# Altium footprint library Supernova Switches.PcbLib: 29 footprints (part 2 of 2)
Each footprint in its own frame and in the unit in brackets; x right, y up, seen from the top. Pads: shape width x height; smd on the part's side, far side on the other; paste and mask are expansions set on the pad; w line width, h text height; cw(c..) or ccw(c..) is an arc to the next point about the centre after c.
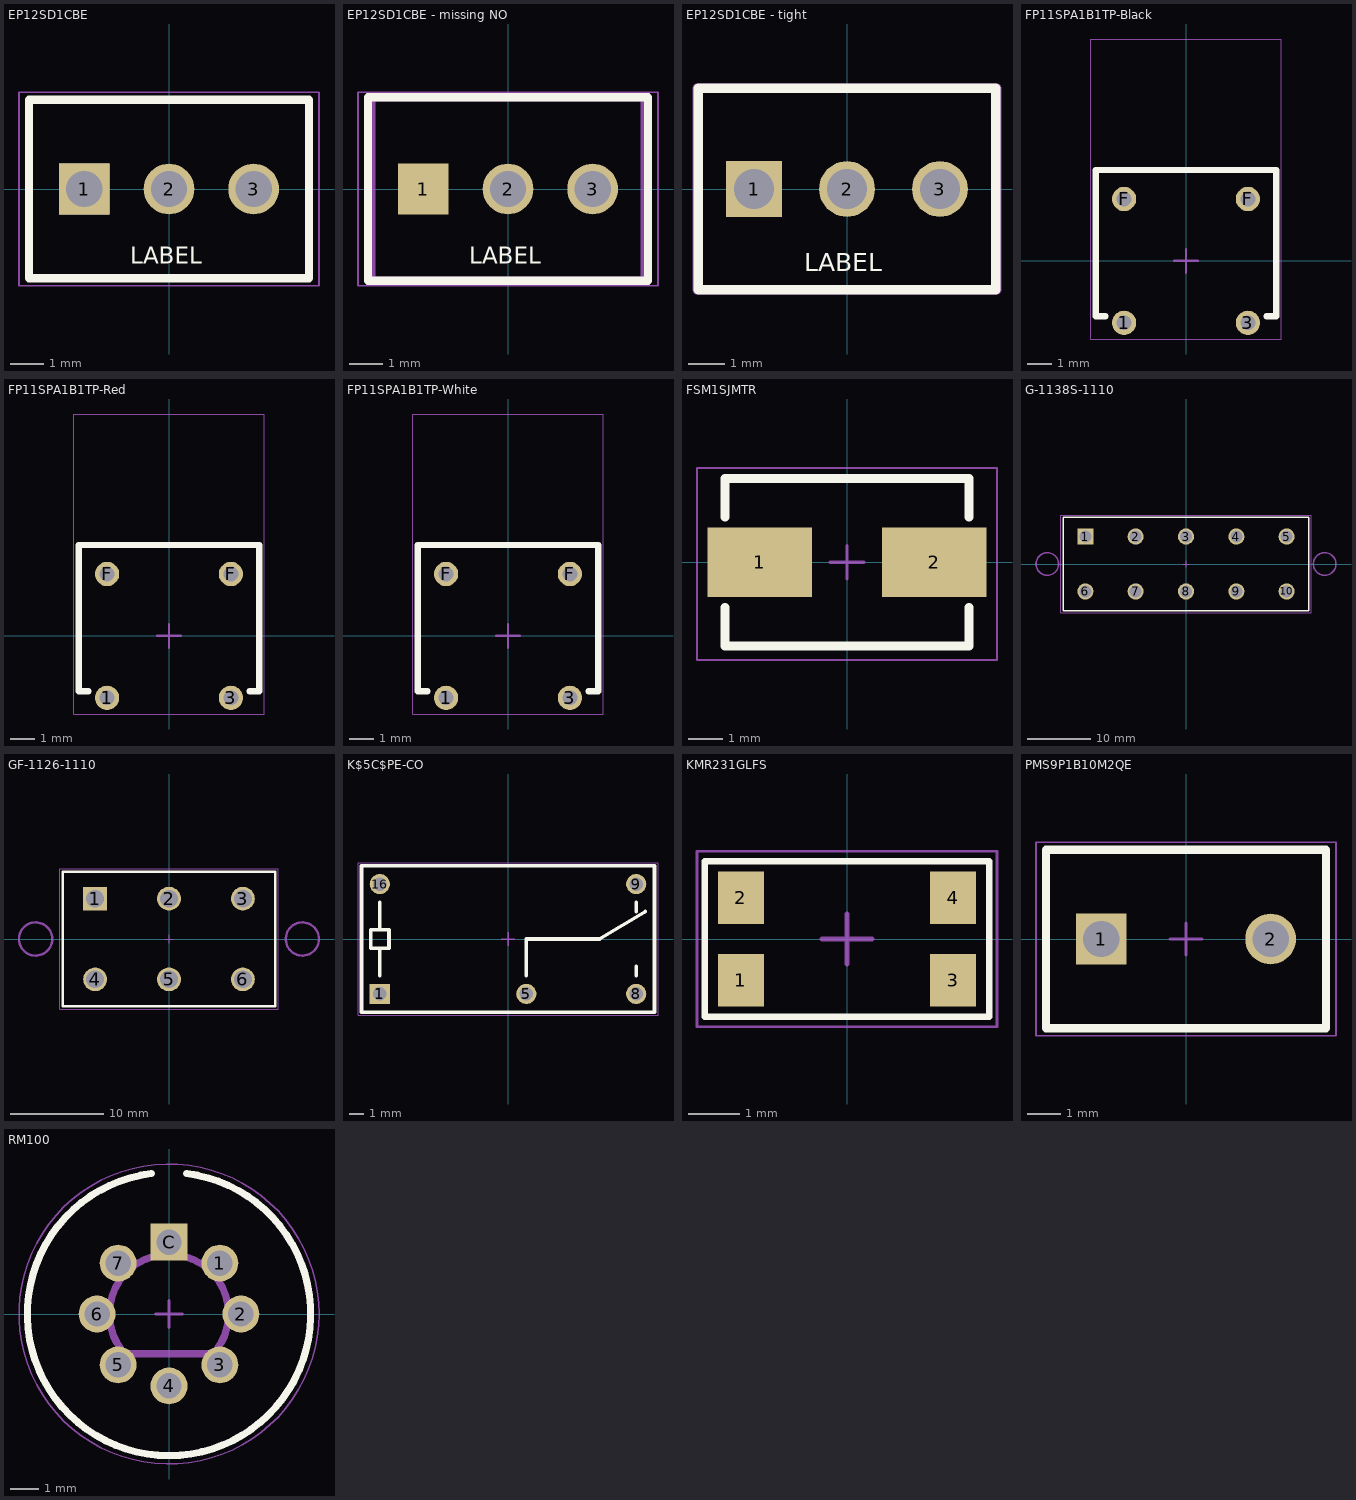
[diagram p1: the footprints below, top view; thin cyan lines are the x and y axes]

## EP12SD1CBE [mil]
pads (3):
  rect 60x60 hole 42.91: 1(-100,0)
  round 60 hole 42.91: 2(0,0) 3(100,0)
Top Overlay:
  rectangle: -130,-30 -70,30
  lines w10: -165.35,-105.31 165.35,-105.31 165.35,105.31 -165.35,105.31 -165.35,-105.31
  text "LABEL" at -45.92,-88.58 h19.68
Top Courtyard:
  lines w1.97: -177.17,-114.17 -177.17,114.17 177.17,114.17 177.17,-114.17 -177.17,-114.17
  lines w3.94: -18.9,0 18.9,0 ; 0,-18.9 0,18.9
3D body "EP12SD1CBE.stp": height 743.19, standoff -128.82, extent -160,-100 160,100

## EP12SD1CBE - missing NO [mil]
pads (3):
  rect 60x60 smd paste-78.74 mask+4: 1(-100,0)
  round 60 hole 42.91: 2(0,0) 3(100,0)
Top Overlay:
  lines w10: -165.35,-108.27 165.35,-108.27 165.35,108.27 -165.35,108.27 -165.35,-108.27
  text "LABEL" at -45.92,-88.58 h19.68
Top 3D Body:
  lines w10: -161.42,-108.27 -161.42,108.27 -157.48,108.27 161.42,108.27 161.42,-108.27 -161.42,-108.27
Top Courtyard:
  lines w1.97: -177.17,-114.17 -177.17,114.17 177.17,114.17 177.17,-114.17 -177.17,-114.17
  lines w3.94: -18.9,0 18.9,0 ; 0,-18.9 0,18.9
3D body "EP12SD1CBE.stp": height 743.19, standoff -128.82, extent -160,-100 160,100

## EP12SD1CBE - tight [mil]
pads (3):
  rect 60x60 hole 42.91: 1(-100,0)
  round 60 hole 42.91: 2(0,0) 3(100,0)
Top Overlay:
  lines w10: -160.16,-108.27 160.09,-108.27 160.09,108.27 -160.16,108.27 -160.16,-108.27
  text "LABEL" at -45.92,-88.58 h19.68
Top 3D Body:
  lines w10: -161.42,-108.27 161.42,-108.27 161.42,108.27 -157.48,108.27 -161.42,108.27 -161.42,-108.27
Top Courtyard:
  lines w1.97: -161.42,-108.27 -161.42,108.27 161.42,108.27 161.42,-108.27 -161.42,-108.27
  lines w3.94: -18.9,0 18.9,0 ; 0,-18.9 0,18.9
3D body "EP12SD1CBE.stp": height 743.19, standoff -128.82, extent -160,-100 160,100

## FP11SPA1B1TP-Black [mm]
pads (4):
  round 1 hole 0.6: 1(-2.54,-2.54) 3(2.54,-2.54) F(-2.54,2.54) F(2.54,2.54)
Top Overlay:
  lines w0.254: -3.3,-2.27 -3.7,-2.27 -3.7,3.73 3.7,3.73 3.7,-2.27 3.3,-2.27
Top Courtyard:
  lines w0.05: -3.9,-3.2 -3.9,9.1 3.9,9.1 3.9,-3.2 -3.9,-3.2
  lines w0.1: -0.48,0 0.48,0 ; 0,-0.48 0,0.48
3D body "FP11SPA1B1TP00.stp": height 5, standoff -2.62, extent -3.5,-2.67 3.5,8.46
3D body: height 4.25, standoff 0.25, extent -2,6.6 2,9

## FP11SPA1B1TP-Red [mm]
pads (4):
  round 1 hole 0.6: 1(-2.54,-2.54) 3(2.54,-2.54) F(-2.54,2.54) F(2.54,2.54)
Top Overlay:
  lines w0.254: -3.3,-2.27 -3.7,-2.27 -3.7,3.73 3.7,3.73 3.7,-2.27 3.3,-2.27
Top Courtyard:
  lines w0.05: -3.9,-3.2 3.9,-3.2 3.9,9.1 -3.9,9.1 -3.9,-3.2
  lines w0.1: -0.48,0 0.48,0 ; 0,-0.48 0,0.48
3D body: height 4.25, standoff 0.25, extent -2,6.6 2,9
3D body "FP11SPA1B1TP00.stp": height 5, standoff -2.62, extent -3.5,-2.67 3.5,8.46

## FP11SPA1B1TP-White [mm]
pads (4):
  round 1 hole 0.6: 1(-2.54,-2.54) 3(2.54,-2.54) F(-2.54,2.54) F(2.54,2.54)
Top Overlay:
  lines w0.254: -3.3,-2.27 -3.7,-2.27 -3.7,3.73 3.7,3.73 3.7,-2.27 3.3,-2.27
Top Courtyard:
  lines w0.05: -3.9,-3.2 -3.9,9.1 3.9,9.1 3.9,-3.2 -3.9,-3.2
  lines w0.1: -0.48,0 0.48,0 ; 0,-0.48 0,0.48
3D body "FP11SPA1B1TP00.stp": height 5, standoff -2.62, extent -3.5,-2.67 3.5,8.46
3D body: height 4.25, standoff 0.25, extent -2,6.6 2,9

## FSM1SJMTR [mm]
pads (2):
  rect 3x2 smd: 1(-2.5,0) 2(2.5,0)
Top Overlay:
  lines w0.254: -3.5,-1.3 -3.5,-2.4 3.5,-2.4 3.5,-1.3 ; -3.5,1.3 -3.5,2.4 3.5,2.4 3.5,1.3
Top Courtyard:
  lines w0.05: -4.3,-2.8 4.3,-2.8 4.3,2.7 -4.3,2.7 -4.3,-2.8
  lines w0.1: -0.48,0 0.48,0 ; 0,-0.48 0,0.48
3D body: height 2.8, standoff 0, extent -3.4,-2.35 3.4,2.35
3D body: height 3.6, standoff 0, extent -2.1,-1.5 2.1,1.5
3D body: height 4.3, standoff 0, extent -1.5,-0.9 1.5,0.9

## G-1138S-1110 [mm] "DP4P switch"
pads (10):
  rect 2.54x2.54 hole 1.91: 1(-15.84,4.32)
  round 2.54 hole 1.91: 2(-7.92,4.32) 3(0,4.32) 4(7.92,4.32) 5(15.84,4.32) 6(-15.84,-4.32) 7(-7.92,-4.32) 8(0,-4.32) 9(7.92,-4.32) 10(15.84,-4.32)
Top Overlay:
  lines w0.254: -19.304,-7.366 -19.304,7.366 19.304,7.366 19.304,-7.366 -19.304,-7.366
Mechanical 5:
  circle w0.254: c-21.82,0 r1.78
  circle w0.254: c21.82,0 r1.78
Top Courtyard:
  lines w0.05: -19.7,-7.7 -19.7,7.7 19.7,7.7 19.7,-7.7 -19.7,-7.7
  lines w0.1: -0.48,0 0.48,0 ; 0,-0.48 0,0.48
3D body "G-1138S-1110_3D MODEL.stp": height 18.9, standoff -5.32, extent -24.994,-7.112 24.994,7.112

## GF-1126-1110 [mm] "DP4P switch"
pads (6):
  rect 2.54x2.54 hole 1.91: 1(-7.92,4.32)
  round 2.54 hole 1.91: 2(0,4.32) 3(7.92,4.32) 4(-7.92,-4.32) 5(0,-4.32) 6(7.92,-4.32)
Top Overlay:
  lines w0.254: -11.4,-7.2 -11.4,7.2 11.4,7.2 11.4,-7.2 -11.4,-7.2
Mechanical 5:
  circle w0.254: c-14.29,0 r1.78
  circle w0.254: c14.29,0 r1.78
Top Courtyard:
  lines w0.05: -11.7,-7.5 11.7,-7.5 11.7,7.5 -11.7,7.5 -11.7,-7.5
  lines w0.1: -0.48,0 0.48,0 ; 0,-0.48 0,0.48
3D body "GF-1126-1110_3D MODEL.stp": height 19.08, standoff -5.3, extent -17.272,-6.943 17.272,6.955

## K$5C$PE-CO [mil]
pads (5):
  rect 55x55 hole 37: 1(-350,-150)
  round 55 hole 37: 5(50,-150) 8(350,-150) 9(350,150) 16(-350,150)
Top Overlay:
  lines w10: -350,-100 -350,-25 ; -350,25 -350,100 ; 50,-100 50,0 250,0 375,75 ; 350,-100 350,-75 ; 350,75 350,100 ; -350,-25 -375,-25 -375,25 -325,25 -325,-25 -350,-25 ; -400,-200 400,-200 400,200 -400,200 -400,-200
Top Courtyard:
  lines w1.97: -409.45,-208.66 -409.45,208.66 409.45,208.66 409.45,-208.66 -409.45,-208.66
  lines w3.94: -18.9,0 18.9,0 ; 0,-18.9 0,18.9
3D body "c-1393219-3-shk1-3d.stp": height 393.7, standoff -149.61, extent -392.69,-198.85 394.7,194.85

## KMR231GLFS [mil] "SW4SMD_63X161LS"
pads (4):
  rect 35x40 smd mask+2: 1(-80.71,-31.5) 2(-80.71,31.5) 3(80.71,-31.5) 4(80.71,31.5)
Top Overlay:
  lines w5: -108.27,-59.06 108.27,-59.06 108.27,59.06 -108.27,59.06 -108.27,-59.06
Top Courtyard:
  lines w1.97: -114.17,-66.93 114.17,-66.93 114.17,66.93 -114.17,66.93 -114.17,-66.93
  lines w3.94: -18.9,0 18.9,0 ; 0,-18.9 0,18.9
3D body "User Library-Switch-CK-KMR2.STEP": height 82.68, standoff 0, extent -90.54,-59.05 90.56,59.06

## PMS9P1B10M2QE [mil]
pads (2):
  rect 60x60 hole 42.91: 1(-100,0)
  round 60 hole 42.91: 2(100,0)
Top Overlay:
  lines w10: -165.35,-105.31 -165.35,105.31 165.35,105.31 165.35,-105.31 -165.35,-105.31
Top Courtyard:
  lines w1.97: -177.17,-114.17 177.17,-114.17 177.17,114.17 -177.17,114.17 -177.17,-114.17
  lines w3.94: -18.9,0 18.9,0 ; 0,-18.9 0,18.9
3D body "c-2267072-4-a-3d.stp": height 488.19, standoff -127.56, extent -160,-100.78 160,100.79

## RM100 [mm]
pads (8):
  round 1.3 hole 0.9: 1(1.796,1.796) 2(2.54,0) 3(1.796,-1.796) 4(0,-2.54) 5(-1.796,-1.796) 6(-2.54,0) 7(-1.796,1.796)
  rect 1.3x1.3 hole 0.9: C(0,2.54)
Top Overlay:
  lines w0.254: -0.629,4.96 ccw(c0,0) 0.623,4.961
Top 3D Body:
  lines w0.254: -1.571,-1.4 cw(c0,0) 1.571,-1.4 -1.571,-1.4
Top Courtyard:
  circle w0.05: c0,0 r5.295
  lines w0.1: -0.48,0 0.48,0 ; 0,-0.48 0,0.48
3D body: height 15.1, standoff 7.37, extent -2.111,-1.401 2.104,2.108
3D body: height 2.5, standoff 0.9, extent -0.375,4 0.375,5.2
3D body: height 3.4, standoff 0.9, extent -4.6,-4.6 4.6,4.6
3D body: height 7.37, standoff 3.4, extent -4.6,-4.6 4.6,4.6